# Altium footprint library HDSP-523E.PcbLib: 1 footprints
Each footprint in its own frame and in the unit in brackets; x right, y up, seen from the top. Pads: shape width x height; smd on the part's side, far side on the other; paste and mask are expansions set on the pad; w line width, h text height; cw(c..) or ccw(c..) is an arc to the next point about the centre after c.
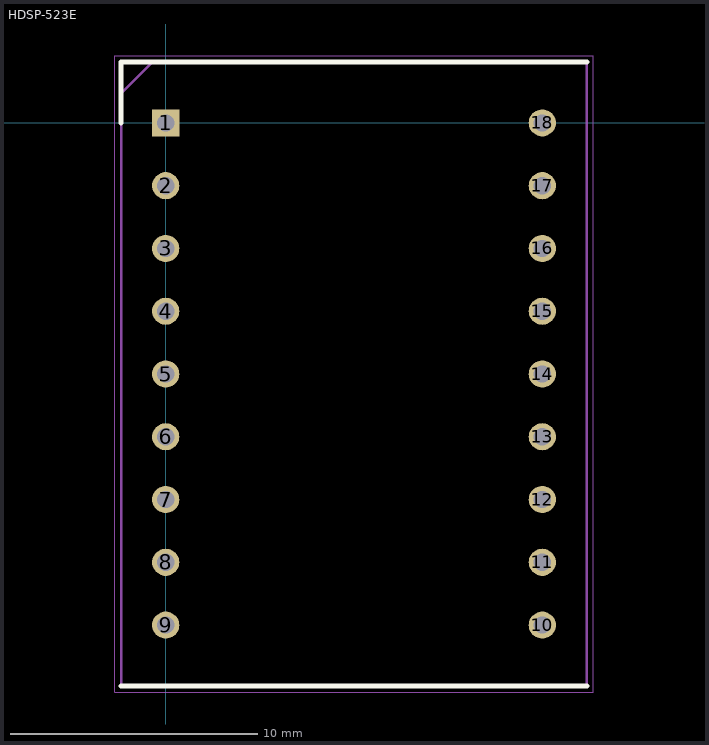
[diagram p0: the footprint, top view; thin cyan lines are the x and y axes]

## HDSP-523E [mm]
pads (18):
  rect 1.1x1.1 hole 0.7: 1(0,0)
  round 1.1 hole 0.7: 2(0,-2.54) 3(0,-5.08) 4(0,-7.62) 5(0,-10.16) 6(0,-12.7) 7(0,-15.24) 8(0,-17.78) 9(0,-20.32) 10(15.24,-20.32) 11(15.24,-17.78) 12(15.24,-15.24) 13(15.24,-12.7) 14(15.24,-10.16) 15(15.24,-7.62) 16(15.24,-5.08) 17(15.24,-2.54) 18(15.24,0)
Top Overlay:
  lines w0.2: -1.805,-22.785 17.045,-22.785 ; -1.805,0 -1.805,2.465 17.045,2.465
Mechanical 13:
  lines w0.1: -1.805,1.195 -0.535,2.465 ; -1.805,-22.785 17.045,-22.785 17.045,2.465 -1.805,2.465 -1.805,-22.785
Mechanical 15:
  lines w0.05: -2.055,-23.035 17.295,-23.035 17.295,2.715 -2.055,2.715 -2.055,-23.035